# Altium footprint library Self_Locking_Switch.PcbLib: 1 footprints
Each footprint in its own frame and in the unit in brackets; x right, y up, seen from the top. Pads: shape width x height; smd on the part's side, far side on the other; paste and mask are expansions set on the pad; w line width, h text height; cw(c..) or ccw(c..) is an arc to the next point about the centre after c.
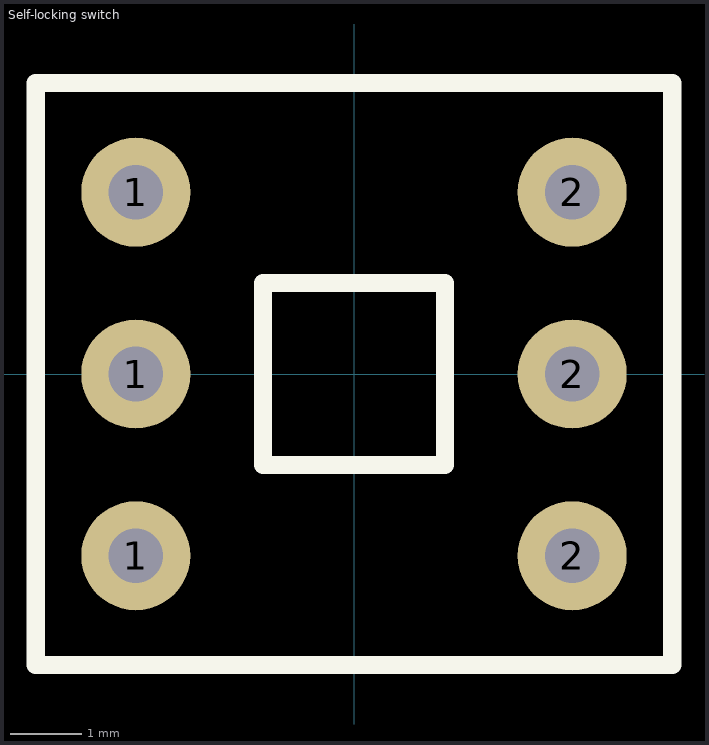
[diagram p0: the footprint, top view; thin cyan lines are the x and y axes]

## Self-locking switch [mil]
pads (6):
  round 60 hole 30: 1(-120,-100) 1(-120,0) 1(-120,100) 2(120,-100) 2(120,0) 2(120,100)
Top Overlay:
  lines w10: -175,-160 175,-160 175,160 -175,160 -175,-160 ; -50,-50 50,-50 50,50 -50,50 -50,-50